# Altium footprint library МЛТ-0,25.PcbLib: 1 footprints
Each footprint in its own frame and in the unit in brackets; x right, y up, seen from the top. Pads: shape width x height; smd on the part's side, far side on the other; paste and mask are expansions set on the pad; w line width, h text height; cw(c..) or ccw(c..) is an arc to the next point about the centre after c.
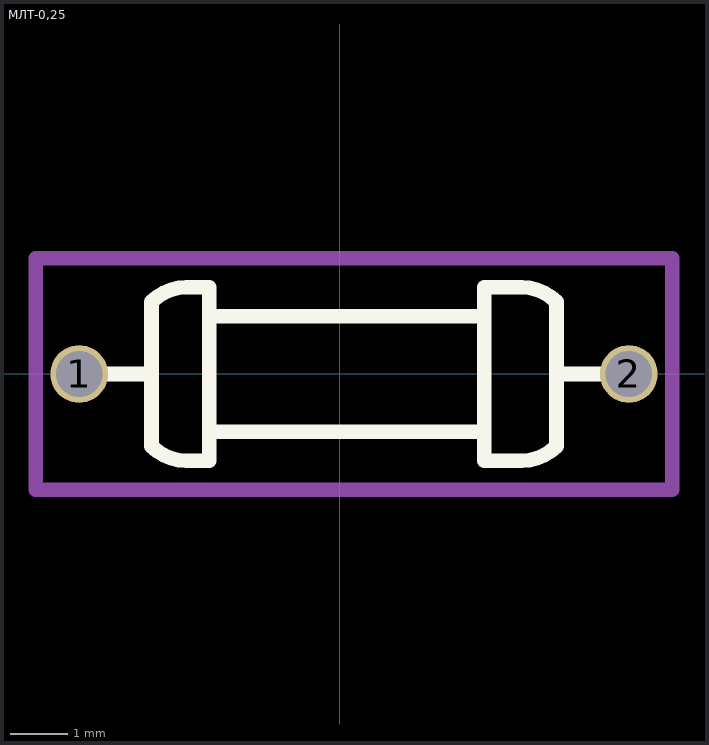
[diagram p0: the footprint, top view; thin cyan lines are the x and y axes]

## МЛТ-0,25 [mm]
pads (2):
  round 1 hole 0.8: 1(-4.5,0) 2(5,0)
Top Overlay:
  lines w0.254: -4.5,0 -3.25,0 ; 3.75,0 5,0 ; -2.25,-1 -2.25,-1.5 -2.646,-1.5 cw(c-2.646,-0.646) -3.25,-1.25 -3.25,1.25 cw(c-2.646,0.646) -2.646,1.5 -2.25,1.5 -2.25,1 ; -2.25,-1 2.5,-1 ; -2.25,-1 -2.25,1 ; -2.25,1 2.5,1 ; 2.5,-1 2.5,-1.5 3.146,-1.5 ccw(c3.146,-0.646) 3.75,-1.25 3.75,1.25 ccw(c3.146,0.646) 3.146,1.5 2.5,1.5 2.5,1 ; 2.5,-1 2.5,1
Mechanical 1:
  lines w0.254: -5.25,-2 -5.25,2 5.75,2 5.75,-2 -5.25,-2